# EAGLE library part MSP430F2012 (library gecko)
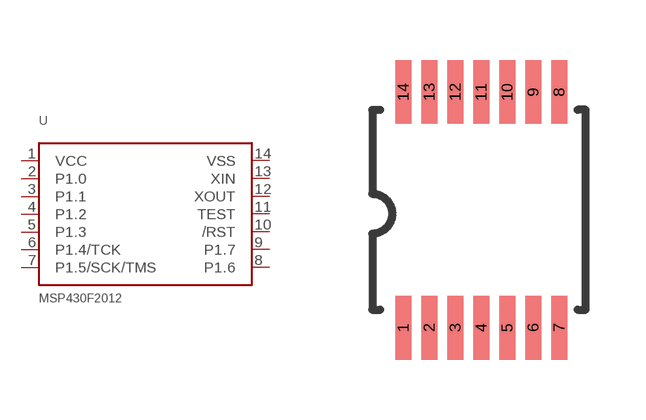
[diagram p9: symbol with the pads of TSSOP14; footprint TSSOP14]

Designator prefix U

## MSP430F2012  [TSSOP14]
1  VCC
2  P1.0
3  P1.1
4  P1.2
5  P1.3
6  P1.4/TCK
7  P1.5/SCK/TMS
8  P1.6
9  P1.7
10  /RST
11  TEST
12  XOUT
13  XIN
14  VSS

## Footprint TSSOP14 (pad centres in mm)
Thin Shrink Small Outline Plastic 14 MAX3223-MAX3243.pdf
smd 0.4 x 1.6: 1 -1.971,-2.85; 2 -1.321,-2.85; 3 -0.671,-2.85; 4 -0.021,-2.85; 5 0.629,-2.85; 6 1.279,-2.85; 7 1.929,-2.85; 8 1.929,3.05; 9 1.279,3.05; 10 0.629,3.05; 11 -0.021,3.05; 12 -0.671,3.05; 13 -1.321,3.05; 14 -1.971,3.05